# Altium schematic symbol library ABRACON CRYSTAL ABS07.SchLib: 1 symbol
Pins are listed as number, name and electrical type; pins without a type are passive.

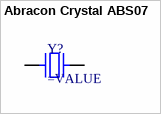
[diagram p0: symbol Abracon Crystal ABS07]

## Abracon Crystal ABS07
designator Y?
SMT Crystal
pins: 1, 2